# Altium schematic symbol library Capacitor_0201.SchLib: 1 symbol
Pins are listed as number, name and electrical type; pins without a type are passive.

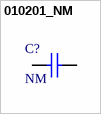
[diagram p0: symbol 010201_NM]

## 010201_NM
designator C?, comment NM
CAP, size 0201, NM, N/A; Capacitance: N/A; ComponentLink1Description: Datasheet; ComponentLink1URL: N/A; LCSC Part #: N/A; Manufacturer Part Number: N/A; Manufacturer: N/A; Mount: SMD/SMT; Operating Temperature Max: + 85 C; Operating Temperature Min: - 40 C; Package / Case: 0201; Packaging: Tape and Reel; Supplier 1 Part Number: N/A; Supplier 1 URL: N/A; Supplier 1: N/A; Supplier 2 Part Number: N/A; Supplier 2 URL: N/A; Supplier 2: N/A; Supplier 3 Part Number: N/A; Supplier 3 URL: N/A; Supplier 3: thegioiic; Tolerance: N/A; Value: NM; Voltage Rating DC: N/A
footprint CAP_0201 (Chip Capacitor, 2-Leads, Body 0.60x0.30mm, IPC Medium Density)
pins: 1, 2